# EAGLE library part AD8672 (library opamps)
AD8672: Dual precision opamp (Analog Devices) ±15V, ±10mA, 40nA bias 125µV offset, 10MHz UGF, 3.8nV/rt(Hz) noise
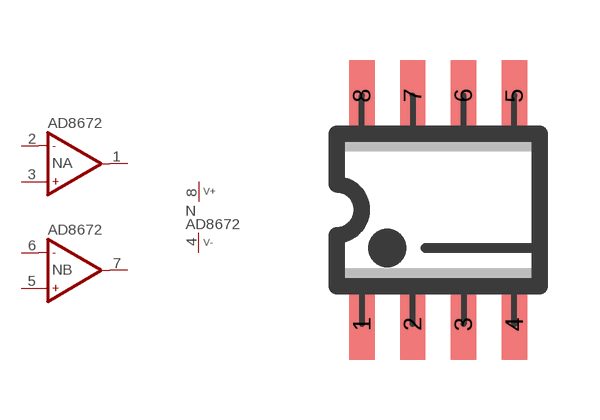
[diagram p260: symbol with the pads of SO08; footprint SO08]

Designator prefix N; gates A=OP-NAME B=OP-NAME P=V+-

## AD8672  [SO08]
1  A:OUT  out
2  A:IN-  in
3  A:IN+  in
4  P:V-  pwr
5  B:IN+  in
6  B:IN-  in
7  B:OUT  out
8  P:V+  pwr

## AD8672S  [SO08]
Pads as for SO08

## Footprint SO08 (pad centres in mm)
SO-8, SMD SOIC IC package, 8 pins
smd 0.635 x 1.778: 1 -1.905,-2.857; 2 -0.635,-2.857; 3 0.635,-2.857; 4 1.905,-2.857; 5 1.905,2.857; 6 0.635,2.857; 7 -0.635,2.857; 8 -1.905,2.857